# Altium footprint library gini_base_pcb.PCBLIB: 175 footprints (part 4 of 11)
Each footprint in its own frame and in the unit in brackets; x right, y up, seen from the top. Pads: shape width x height; smd on the part's side, far side on the other; paste and mask are expansions set on the pad; w line width, h text height; cw(c..) or ccw(c..) is an arc to the next point about the centre after c.
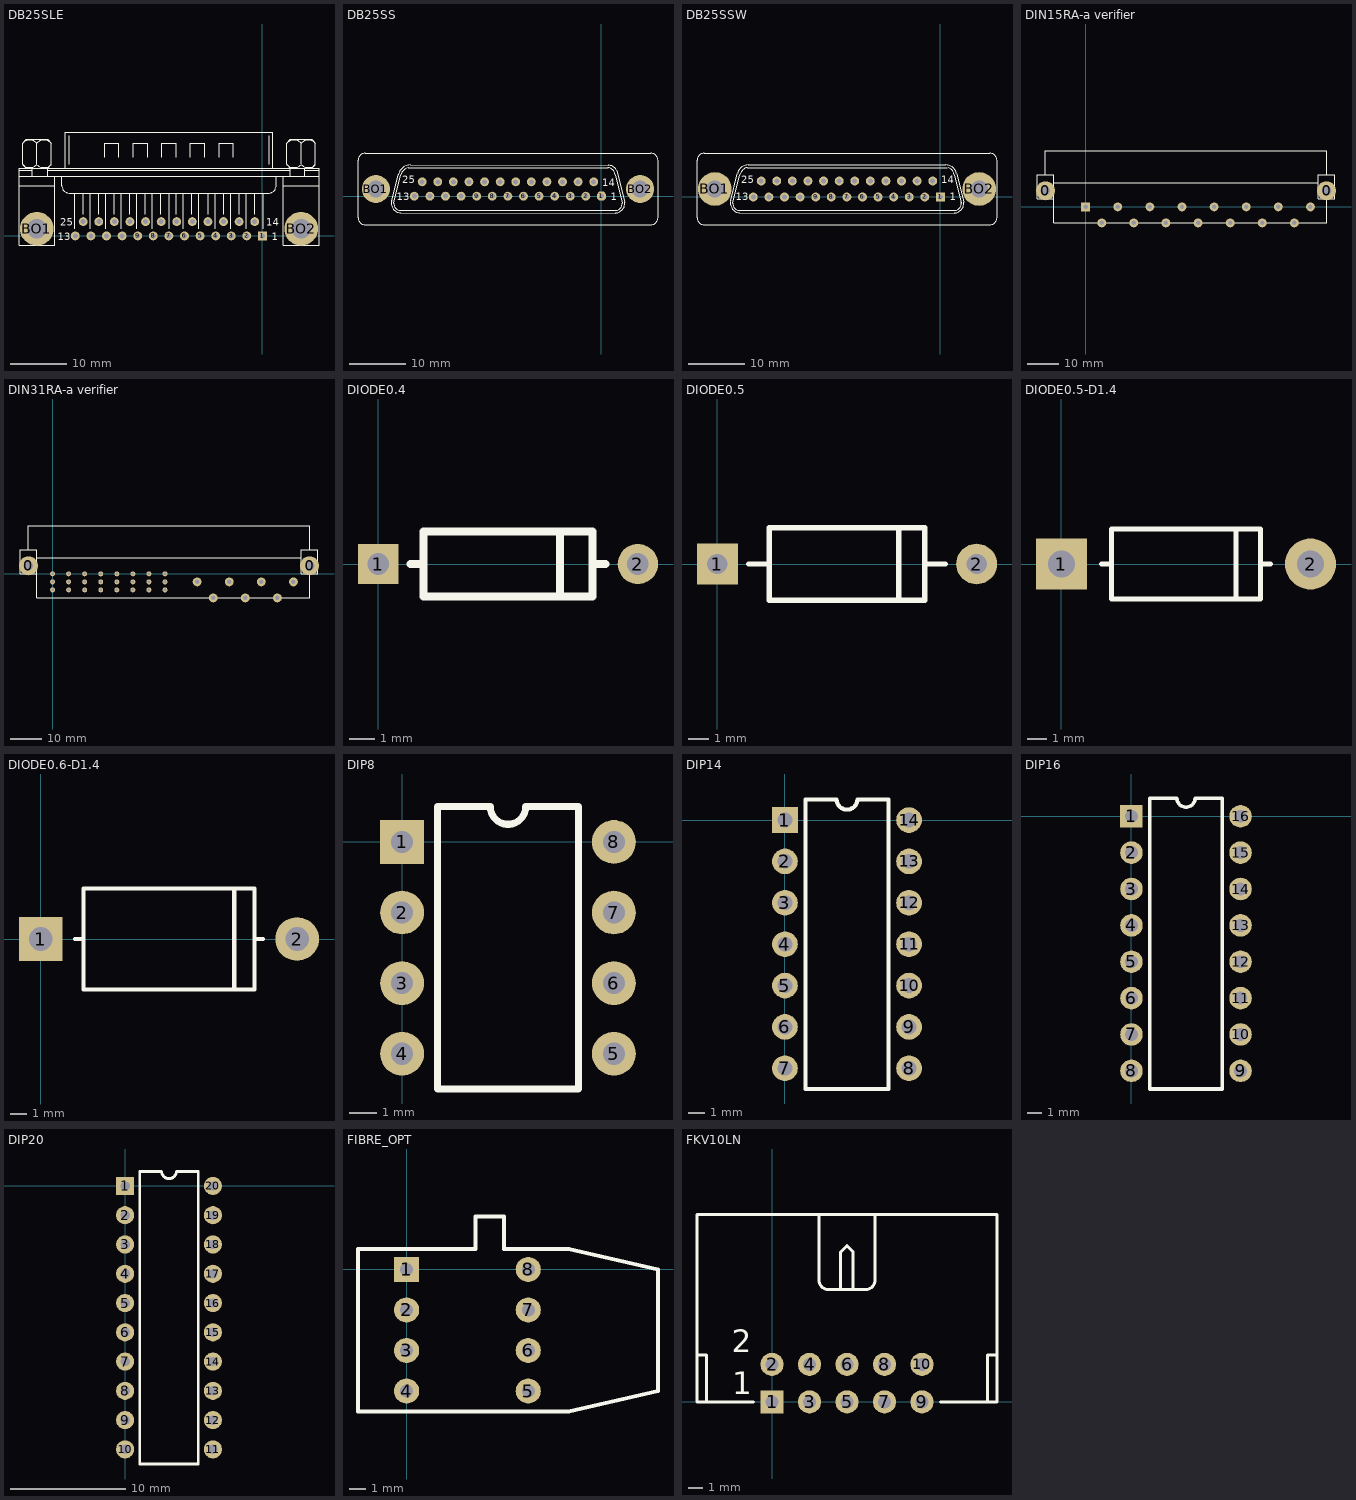
[diagram p3: the footprints below, top view; thin cyan lines are the x and y axes]

## DB25SLE [mil]
pads (27):
  rect 62x62 hole 35: 1(0,0)
  round 62 hole 35: 2(-109.17,0) 3(-218.33,0) 4(-327.5,0) 5(-436.67,0) 6(-545.83,0) 7(-655,0) 8(-764.17,0) 9(-873.33,0) 10(-982.5,0) 11(-1091.67,0) 12(-1200.83,0) 13(-1310,0) 14(-54.17,100) 15(-163.33,100) 16(-272.5,100) 17(-381.67,100) 18(-490.83,100) 19(-600,100) 20(-709.17,100) 21(-818.33,100) 22(-927.5,100) 23(-1036.67,100) 24(-1145.83,100) 25(-1255,100)
  round 236.22 hole 137.8: BO1(-1579.17,50) BO2(270.83,50)
TopOverlay:
  lines w8: -1704.17,350 -1454.17,350 ; -1704.17,416.67 395.83,416.67 ; -1704.17,458.33 -1612.5,458.33 ; -1679.25,499.91 ccw(c-1629.17,550) -1579.08,499.91 ; -1679.25,650.09 cw(c-1629.17,600) -1579.08,650.09 ; -1654.17,475 -1679.17,500 -1679.17,650 -1654.17,675 -1504.17,675 -1479.17,650 -1479.17,500 -1504.17,475 -1504.17,416.67 ; -1612.5,416.67 -1612.5,475 ; -1579.25,499.91 ccw(c-1529.17,550) -1479.08,499.91 ; -1579.25,650.09 cw(c-1529.17,600) -1479.08,650.09 ; -1579.17,500 -1579.17,650 ; -1504.17,458.33 195.83,458.33 ; -1454.17,416.67 -1454.17,-66.67 -1704.17,-66.67 -1704.17,475 395.83,475 395.83,-66.67 145.83,-66.67 145.83,416.67 ; -1404.17,416.67 -1404.17,350 ccw(c-1354.17,350) -1354.17,300 45.83,300 ccw(c45.83,350) 95.83,350 95.83,416.67 ; -1379.17,475 -1379.17,725 70.83,725 70.83,475 ; -1354.17,500 -1354.17,700 ; -1312.5,50 -1312.5,300 ; -1254.17,150 -1254.17,300 ; -1204.17,50 -1204.17,300 ; -1145.83,150 -1145.83,300 ; -1104.17,550 -1104.17,650 -1004.17,650 -1004.17,550 ; -1095.83,50 -1095.83,300 ; -1037.5,150 -1037.5,300 ; -987.5,50 -987.5,300 ; -929.17,150 -929.17,300 ; -904.17,550 -904.17,650 -804.17,650 -804.17,550 ; -879.17,50 -879.17,300 ; -820.83,150 -820.83,300 ; -770.83,50 -770.83,300 ; -712.5,150 -712.5,300 ; -704.17,550 -704.17,650 -604.17,650 -604.17,550 ; -654.17,50 -654.17,300 ; -604.17,150 -604.17,300 ; -554.17,50 -554.17,300 ; -504.17,550 -504.17,650 -404.17,650 -404.17,550 ; -495.83,150 -495.83,300 ; -445.83,50 -445.83,300 ; -379.17,150 -379.17,300 ; -329.17,50 -329.17,300 ; -304.17,550 -304.17,650 -204.17,650 -204.17,550 ; -270.83,150 -270.83,300 ; -220.83,50 -220.83,300 ; -162.5,150 -162.5,300 ; -112.5,50 -112.5,300 ; -54.17,150 -54.17,300 ; 4.17,50 4.17,300 ; 45.83,500 45.83,700 ; 145.83,350 395.83,350 ; 170.75,499.91 ccw(c220.83,550) 270.92,499.91 ; 170.75,650.09 cw(c220.83,600) 270.92,650.09 ; 195.83,416.67 195.83,475 170.83,500 170.83,650 195.83,675 345.83,675 370.83,650 370.83,500 345.83,475 ; 270.75,499.91 ccw(c320.83,550) 370.92,499.91 ; 270.75,650.09 cw(c320.83,600) 370.92,650.09 ; 270.83,500 270.83,650 ; 295.83,416.67 295.83,475 ; 295.83,458.33 395.83,458.33
  text "25" at -1414.17,70 h50
  text "13" at -1434.17,-30 h50
  text "1" at 65.83,-30 h50
  text "14" at 25.83,70 h50

## DB25SS [mil]
pads (27):
  oct 62x62 hole 35: 1(0,0)
  round 62 hole 35: 2(-109.17,0) 3(-218.33,0) 4(-327.5,0) 5(-436.67,0) 6(-545.83,0) 7(-655,0) 8(-764.17,0) 9(-873.33,0) 10(-982.5,0) 11(-1091.67,0) 12(-1200.83,0) 13(-1310,0) 14(-54.17,100) 15(-163.33,100) 16(-272.5,100) 17(-381.67,100) 18(-490.83,100) 19(-600,100) 20(-709.17,100) 21(-818.33,100) 22(-927.5,100) 23(-1036.67,100) 24(-1145.83,100) 25(-1255,100)
  round 196.67 hole 118.33: BO1(-1579.17,50) BO2(270.83,50)
TopOverlay:
  lines w8: -1469.17,-35 -1420.83,150 ; -1468.85,-33.87 ccw(c-1404.17,-50) -1404.17,-116.67 95.83,-118.33 ; -1420.94,149.55 cw(c-1337.5,133.33) -1337.5,218.33 45.83,216.67 cw(c45.83,150) 107.2,176.05 ; -1404.46,149.46 cw(c-1329.17,125) -1353.63,200.29 ; -1404.17,150 -1454.17,-50 ccw(c-1404.17,-50) -1404.17,-100 95.83,-100 ccw(c95.83,-50) 145.83,-50 95.83,150 ; -1354.17,200 45.83,200 ; 45.73,200.26 cw(c37.5,141.67) 96.09,149.9 ; 95.83,-117.5 ccw(c95.83,-50) 162.83,-41.77 ; 107.5,176.67 162.5,-41.67 ; -1704.17,-150 ccw(c-1654.17,-150) -1654.17,-200 345.83,-200 ccw(c345.83,-150) 395.83,-150 395.83,250 ccw(c345.83,250) 345.83,300 -1654.17,300 ccw(c-1654.17,250) -1704.17,250 -1704.17,-150
  text "14" at 5.83,70 h50
  text "1" at 65.83,-30 h50
  text "13" at -1434.17,-30 h50
  text "25" at -1394.17,90 h50

## DB25SSW [mil]
pads (27):
  rect 62x62 hole 35: 1(0,0)
  round 62 hole 35: 2(-109.17,0) 3(-218.33,0) 4(-327.5,0) 5(-436.67,0) 6(-545.83,0) 7(-655,0) 8(-764.17,0) 9(-873.33,0) 10(-982.5,0) 11(-1091.67,0) 12(-1200.83,0) 13(-1310,0) 14(-54.17,111.67) 15(-163.33,111.67) 16(-272.5,111.67) 17(-381.67,111.67) 18(-490.83,111.67) 19(-600,111.67) 20(-709.17,111.67) 21(-818.33,111.67) 22(-927.5,111.67) 23(-1036.67,111.67) 24(-1145.83,111.67) 25(-1255,111.67)
  round 236.22 hole 122.05: BO1(-1579.17,55.83) BO2(270.83,55.83)
TopOverlay:
  lines w8: -1469.17,-25.83 -1420.83,164.17 ; -1468.25,-25.79 ccw(c-1404.17,-44.17) -1404.17,-110.83 95.83,-112.5 ; -1420.53,164.75 cw(c-1345.83,147.5) -1345.83,224.16 37.5,224.17 cw(c37.5,147.5) 112.2,164.75 ; -1404.17,155.83 -1454.17,-44.17 ccw(c-1404.17,-44.17) -1404.17,-94.17 95.83,-94.17 ccw(c95.83,-44.17) 145.22,-36.35 ; -1403.8,155.7 cw(c-1337.5,139.17) -1354.03,205.47 ; -1354.17,205.83 45.83,205.83 ; 53.81,204.37 cw(c37.5,147.5) 96.09,155.73 ; 95.83,-111.67 ccw(c95.83,-44.17) 162.83,-35.94 ; 95.83,155.83 145.83,-44.17 ; 112.5,164.17 162.5,-35.83 ; -1704.17,-144.17 ccw(c-1654.17,-144.17) -1654.17,-194.17 345.83,-194.17 ccw(c345.83,-144.17) 395.83,-144.17 395.83,255.83 ccw(c345.83,255.83) 345.83,305.83 -1654.17,305.83 ccw(c-1654.17,255.83) -1704.17,255.83 -1704.17,-144.17
  text "13" at -1434.17,-24.17 h50
  text "1" at 65.83,-24.17 h50
  text "14" at 5.83,95.83 h50
  text "25" at -1394.17,95.83 h50

## DIN15RA-a verifier [mm]
pads (17):
  round 6 hole 3: 0(-12.7,5.08) 0(76.2,5.08)
  round 2.8 hole 1.4: d6(5.08,-5.08) d10(15.24,-5.08) d14(25.4,-5.08) d18(35.56,-5.08) d22(45.72,-5.08) d26(55.88,-5.08) d30(66.04,-5.08) z8(10.16,0) z12(20.32,0) z16(30.48,0) z20(40.64,0) z24(50.8,0) z28(60.96,0) z32(71.12,0)
  rect 2.8x2.8 hole 1.4: z4(0,0)
TopOverlay:
  lines w0.254: -10.16,7.62 73.66,7.62 ; 76.2,2.54 76.2,-5.08 -10.16,-5.08 -10.16,2.54 ; -12.7,10.16 -10.16,10.16 -10.16,2.54 ; -12.7,10.16 -15.24,10.16 -15.24,2.54 -10.16,2.54 ; -12.7,10.16 -12.7,17.78 76.2,17.78 76.2,10.16 ; 76.2,10.16 78.74,10.16 78.74,2.54 73.66,2.54 73.66,10.16 76.2,10.16

## DIN31RA-a verifier [mil]
pads (33):
  round 236.22 hole 118.11: 0(-300,100) 0(3200,100)
  round 62 hole 32: 1(0,-200) 2(0,-100) 3(0,0) 4(200,-200) 5(200,-100) 6(200,0) 7(400,-200) 8(400,-100) 9(400,0) 10(600,-200) 11(600,-100) 12(600,0) 13(800,-200) 14(800,-100) 15(800,0) 16(1000,-200) 17(1000,-100) 18(1000,0) 19(1200,-200) 20(1200,-100) 21(1200,0) 22(1400,-200) 23(1400,-100) 24(1400,0)
  round 110.24 hole 55.12: 25(1800,-100) 26(2000,-300) 27(2200,-100) 28(2400,-300) 29(2600,-100) 30(2800,-300) 31(3000,-100)
TopOverlay:
  lines w10: -200,200 3100,200 ; 3200,0 3200,-300 -200,-300 -200,0 ; -300,300 -200,300 -200,0 ; -300,300 -400,300 -400,0 -200,0 ; -300,300 -300,600 3200,600 3200,300 ; 3200,300 3300,300 3300,0 3100,0 3100,300 3200,300

## DIODE0.4 [mil]
pads (2):
  rect 62x62 hole 33.46: 1(0,0)
  round 62 hole 33.46: 2(400,0)
TopOverlay:
  lines w12: 50,0 70,0 ; 280,-50 280,50 ; 330,0 350,0 ; 70,-50 330,-50 330,50 70,50 70,-50
3D body: height 107.09, standoff -102.36, extent -18.19,-54.13 415.83,52.95

## DIODE0.5 [mm]
pads (2):
  rect 2x2 hole 1: 1(0,0)
  round 2 hole 1: 2(12.7,0)
TopOverlay:
  lines w0.254: 1.524,0 2.54,0 ; 8.89,-1.778 8.89,1.778 ; 10.16,0 11.176,0 ; 2.54,-1.778 2.54,1.778 10.16,1.778 10.16,-1.778 2.54,-1.778

## DIODE0.5-D1.4 [mm]
pads (2):
  rect 2.6x2.6 hole 1.4: 1(0,0)
  round 2.6 hole 1.4: 2(12.7,0)
TopOverlay:
  lines w0.254: 2.032,0 2.54,0 ; 8.89,-1.778 8.89,1.778 ; 10.16,0 10.668,0 ; 2.54,-1.778 2.54,1.778 10.16,1.778 10.16,-1.778 2.54,-1.778

## DIODE0.6-D1.4 [mm]
pads (2):
  rect 2.6x2.6 hole 1.4: 1(0,0)
  round 2.6 hole 1.4: 2(15.24,0)
TopOverlay:
  lines w0.254: 2.032,0 2.54,0 ; 11.5,-2.999 11.5,3 ; 12.7,0 13.208,0 ; 2.54,-3 12.7,-3 12.7,3 2.54,3 2.54,-3

## DIP8 [mil]
pads (8):
  rect 62x62 hole 31.5: 1(0,0)
  round 62 hole 31.5: 2(0,-100) 3(0,-200) 4(0,-300) 5(300,-300) 6(300,-200) 7(300,-100) 8(300,0)
TopOverlay:
  lines w10: 50,-350 250,-350 250,50 175,50 cw(c150,50) 125,50 50,50 50,-350
3D body: height 177.17, standoff -137.8, extent -3.16,-362.21 302.38,62.99

## DIP14 [mil]
pads (14):
  rect 62x62 hole 35.43: 1(0,0)
  round 62 hole 35.43: 2(0,-100) 3(0,-200) 4(0,-300) 5(0,-400) 6(0,-500) 7(0,-600) 8(300,-600) 9(300,-500) 10(300,-400) 11(300,-300) 12(300,-200) 13(300,-100) 14(300,0)
TopOverlay:
  lines w10: 50,-650 250,-650 250,50 175,50 cw(c150,50) 125,50 50,50 50,-650
3D body: height 177.17, standoff -137.8, extent -2.17,-659.45 303.37,53.15

## DIP16 [mil]
pads (16):
  rect 62x62 hole 35.43: 1(0,0)
  round 62 hole 35.43: 2(0,-100) 3(0,-200) 4(0,-300) 5(0,-400) 6(0,-500) 7(0,-600) 8(0,-700) 9(300,-700) 10(300,-600) 11(300,-500) 12(300,-400) 13(300,-300) 14(300,-200) 15(300,-100) 16(300,0)
TopOverlay:
  lines w10: 50,-750 50,50 125,50 ccw(c150,50) 175,50 250,50 250,-750 50,-750
3D body: height 179.92, standoff -150, extent -3.94,-734.96 303.94,30

## DIP20 [mil]
pads (20):
  rect 62x62 hole 32: 1(0,0)
  round 62 hole 32: 2(0,-100) 3(0,-200) 4(0,-300) 5(0,-400) 6(0,-500) 7(0,-600) 8(0,-700) 9(0,-800) 10(0,-900) 11(300,-900) 12(300,-800) 13(300,-700) 14(300,-600) 15(300,-500) 16(300,-400) 17(300,-300) 18(300,-200) 19(300,-100) 20(300,0)
TopOverlay:
  lines w10: 50,-950 250,-950 250,-750 250,50 175,50 cw(c150,50) 125,50 50,50 50,-750 50,-950

## Dissipateur [mil] "Dissipateur"

## FIBRE_OPT [mil]
pads (8):
  rect 62x62 hole 32: 1(0,0)
  round 62 hole 32: 2(0,-100) 3(0,-200) 4(0,-300) 5(300,-300) 6(300,-200) 7(300,-100) 8(300,0)
TopOverlay:
  lines w10: -120,-350 -120,50 170,50 170,130 240,130 240,50 400,50 620,0 620,-300 400,-350 -120,-350

## FKV10LN [mil]
pads (10):
  rect 62x62 hole 35.43: 1(0,0)
  round 62 hole 35.43: 2(0,100) 3(100,0) 4(100,100) 5(200,0) 6(200,100) 7(300,0) 8(300,100) 9(400,0) 10(400,100)
TopOverlay:
  lines w8: -200,125 -175,125 -175,0 ; -50,0 -200,0 -200,500 600,500 600,0 450,0 ; 125,500 125,361.67 125,325 ccw(c150,325) 150,300 250,300 ccw(c250,325) 275,325 275,500 ; 183.33,300 183.33,400 200,416.67 216.67,400 216.67,300 ; 575,0 575,125 600,125
  text "1" at -106,20 h60
  text "2" at -107,133 h60